# Altium footprint library M8.PcbLib: 1 footprints
Each footprint in its own frame and in the unit in brackets; x right, y up, seen from the top. Pads: shape width x height; smd on the part's side, far side on the other; paste and mask are expansions set on the pad; w line width, h text height; cw(c..) or ccw(c..) is an arc to the next point about the centre after c.
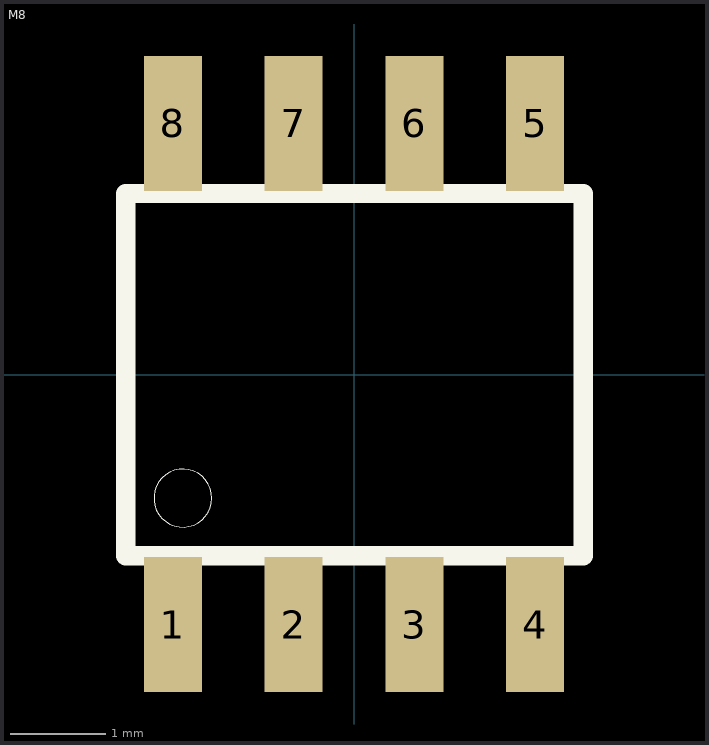
[diagram p0: the footprint, top view; thin cyan lines are the x and y axes]

## M8 [mil]
pads (8):
  rect 24x56 smd: 1(-75,-103.54) 2(-25,-103.54) 3(25,-103.54) 4(75,-103.54) 5(75,104) 6(25,104) 7(-25,104) 8(-75,104)
Top Overlay:
  circle w0: c-70.87,-51.18 r12
  lines w8: -94.49,-75 95,-75 95,75 -94.49,75 -94.49,-75
Mechanical 13:
  text "SO8 Medium" at -75,-50 h18.6
  text "Microchip" at -75,-25 h18.6
Mechanical 16:
  rectangle: -84.65,-122.05 -65.35,-78.74
  rectangle: -34.65,-122.05 -15.35,-78.74
  rectangle: 16,-122.05 35,-78.74
  rectangle: 66,-122.05 85,-78.74
  rectangle: 66,79 85,123
  rectangle: 16,79 35,123
  rectangle: -34.65,79 -15.35,123
  rectangle: -84.65,79 -65.35,123